# EAGLE library part LM3409 (library _RoweTel)
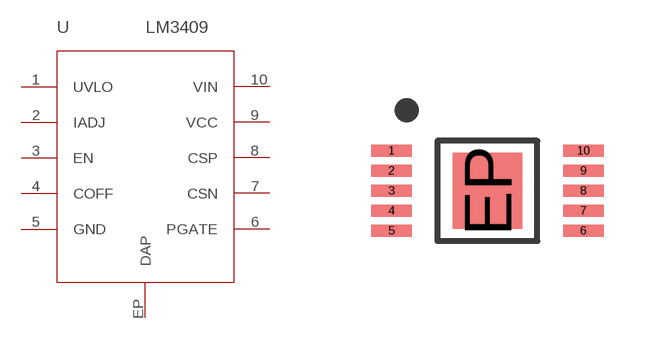
[diagram p26: symbol with the pads of E-MSOP-10; footprint E-MSOP-10]

Designator prefix U

## LM3409  [E-MSOP-10]
1  UVLO
2  IADJ
3  EN
4  COFF
5  GND
6  PGATE
7  CSN
8  CSP
9  VCC
10  VIN
EP  DAP

## Footprint E-MSOP-10 (pad centres in mm)
smd 1.02 x 0.3: 1 -2.4,1; 2 -2.4,0.5; 3 -2.4,0; 4 -2.4,-0.5; 5 -2.4,-1; 6 2.4,-1; 7 2.4,-0.5; 8 2.4,0; 9 2.4,0.5; 10 2.4,1
smd 1.73 x 1.9: EP 0,0